# EAGLE library part ADC,AD7903(DUAL16-BIT) (library QuantumOptics)
AD7903, ADC 16-bit, dual, SPI, also AD7642, AD7646, AD7680-7, AD7690-4.
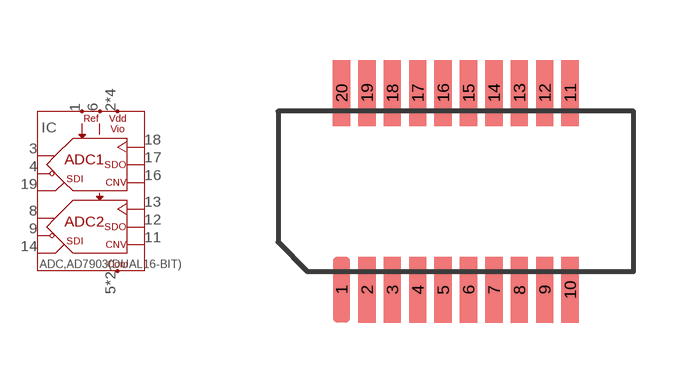
[diagram p199: symbol with the pads of QSOP20(RQ-20); footprint QSOP20(RQ-20)]

Designator prefix IC

## ADC,AD7903(DUAL16-BIT)-QSOP20  [QSOP20(RQ-20)]
1  REF1  in
2  VDD
3  IN1+  in
4  IN1-  in
5  COM
6  REF2  in
7  VDD
8  IN2+  in
9  IN2-  in
10  COM
11  CNV2  in
12  SDO2  out
13  SCLK2  in
14  SDI2  in
15  VDD
16  CNV1  in
17  SDO1  out
18  SCLK1  in
19  SDI1  in
20  VDD

## Footprint QSOP20(RQ-20) (pad centres in mm)
QSOP, AKA RQ-20, variant of SSOP-20 with a longer body.
smd 0.432 x 1.651: 1 -2.857,-2.464; 2 -2.223,-2.464; 3 -1.587,-2.464; 4 -0.953,-2.464; 5 -0.318,-2.464; 6 0.318,-2.464; 7 0.953,-2.464; 8 1.587,-2.464; 9 2.223,-2.464; 10 2.857,-2.464; 11 2.857,2.464; 12 2.223,2.464; 13 1.587,2.464; 14 0.953,2.464; 15 0.318,2.464; 16 -0.318,2.464; 17 -0.953,2.464; 18 -1.587,2.464; 19 -2.223,2.464; 20 -2.857,2.464